# Altium footprint library Copy of QFN50P400X400X100-21N.PcbLib: 1 footprints
Each footprint in its own frame and in the unit in brackets; x right, y up, seen from the top. Pads: shape width x height; smd on the part's side, far side on the other; paste and mask are expansions set on the pad; w line width, h text height; cw(c..) or ccw(c..) is an arc to the next point about the centre after c.
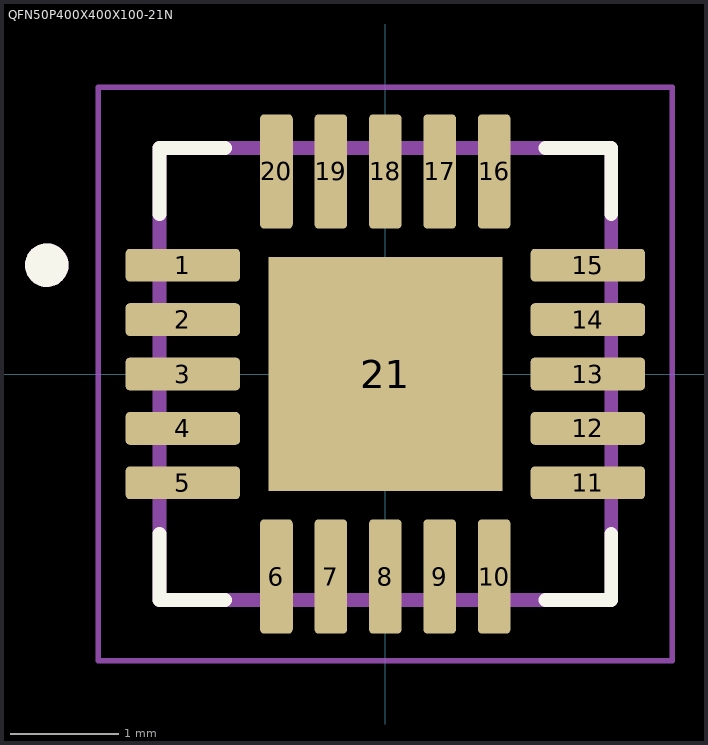
[diagram p0: the footprint, top view; thin cyan lines are the x and y axes]

## QFN50P400X400X100-21N [mm]
pads (21):
  rrect25% 1.05x0.3 smd: 1(-1.86,1) 2(-1.86,0.5) 3(-1.86,0) 4(-1.86,-0.5) 5(-1.86,-1) 11(1.86,-1) 12(1.86,-0.5) 13(1.86,0) 14(1.86,0.5) 15(1.86,1)
  rrect25% 0.3x1.05 smd: 6(-1,-1.86) 7(-0.5,-1.86) 8(0,-1.86) 9(0.5,-1.86) 10(1,-1.86) 16(1,1.86) 17(0.5,1.86) 18(0,1.86) 19(-0.5,1.86) 20(-1,1.86)
  rect 2.15x2.15 smd paste-0.395: 21(0,0)
Top Overlay:
  circle w0.2: c-3.11,1 r0.1
  lines w0.127: -2.075,-1.47 -2.075,-2.075 -1.47,-2.075 ; -2.075,1.47 -2.075,2.075 -1.47,2.075 ; 1.47,-2.075 2.075,-2.075 2.075,-1.47 ; 1.47,2.075 2.075,2.075 2.075,1.47
Assembly Top:
  circle w0.2: c-3.11,1 r0.1
  lines w0.127: -2.075,-2.075 2.075,-2.075 2.075,2.075 -2.075,2.075 -2.075,-2.075
Courtyard Top:
  lines w0.05: -2.635,-2.635 2.635,-2.635 2.635,2.635 -2.635,2.635 -2.635,-2.635
3D body "step_temp.STEP": height 0.8, standoff 0, extent -2.032,-1.968 1.968,2.032